# Altium footprint library acf_foot.PcbLib: 36 footprints (part 3 of 3)
Each footprint in its own frame and in the unit in brackets; x right, y up, seen from the top. Pads: shape width x height; smd on the part's side, far side on the other; paste and mask are expansions set on the pad; w line width, h text height; cw(c..) or ccw(c..) is an arc to the next point about the centre after c.
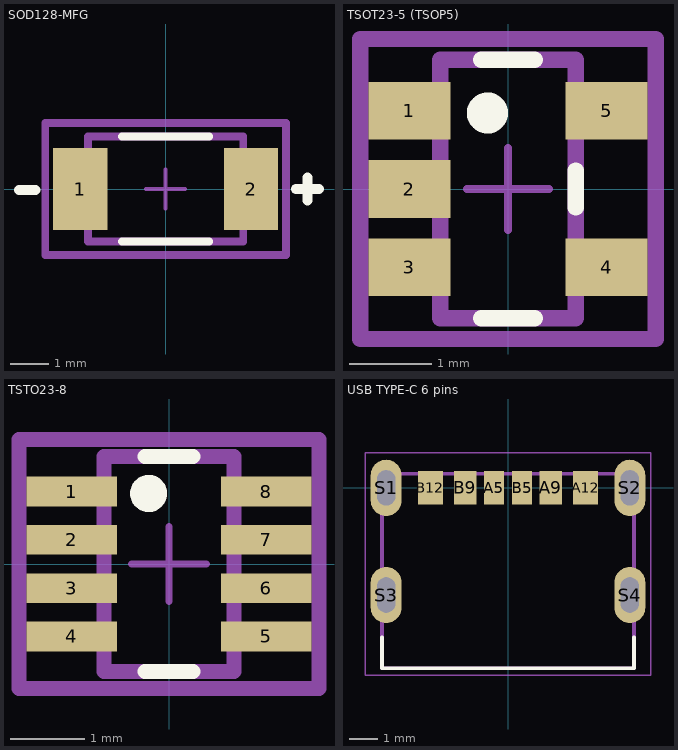
[diagram p2: the footprints below, top view; thin cyan lines are the x and y axes]

## SOD128-MFG [mm] "schottky diode"
pads (2):
  rect 1.4x2.1 smd paste-1000 mask+0: 1(-2.2,0) 2(2.2,0)
Top Overlay:
  lines w0.2: -1.125,-1.35 1.125,-1.35 ; -1.125,1.35 1.125,1.35
  lines w0.254: -3.775,-0.025 -3.35,-0.025 ; 3.35,0 3.95,0 ; 3.65,-0.3 3.65,0.3
Top Paste:
  rectangle: 1.6,-0.95 2.8,0.95
  rectangle: -2.8,-0.95 -1.6,0.95
Top Assembly:
  lines w0.2: -3.1,-1.7 -3.1,1.7 3.1,1.7 3.1,-1.7 -3.1,-1.7
Top 3D Body:
  lines w0.2: -2,-1.35 -2,1.35 2,1.35 2,-1.35 -2,-1.35
Top Courtyard:
  lines w0.2: -3.1,-1.7 -3.1,1.7 3.1,1.7 3.1,-1.7 -3.1,-1.7
Top Component Center:
  lines w0.1: -0.5,0 0.5,0 ; 0,-0.5 0,0.5
3D body "Diode_Nexperia_PMEG10020AELPX_eec.STEP": height 0.25, standoff 0, extent -3.1,-1.7 3.1,1.7

## TSOT23-5 (TSOP5) [mm]
pads (5):
  rect 1x0.7 smd paste+0 mask+0: 1(-1.2,0.95) 2(-1.2,0) 3(-1.2,-0.95) 4(1.2,-0.95) 5(1.2,0.95)
Top Overlay:
  circle w0.25: c-0.25,0.925 r0.125
  lines w0.2: -0.325,-1.575 0.325,-1.575 ; -0.325,1.575 0.325,1.575 ; 0.825,-0.225 0.825,0.225
Top Assembly:
  lines w0.2: -1.8,-1.825 -1.8,1.825 1.8,1.825 1.8,-1.825 -1.8,-1.825
Top 3D Body:
  lines w0.2: -0.825,-1.575 -0.825,1.575 0.825,1.575 0.825,-1.575 -0.825,-1.575
Top Courtyard:
  lines w0.2: -1.8,-1.825 -1.8,1.825 1.8,1.825 1.8,-1.825 -1.8,-1.825
Top Component Center:
  lines w0.1: -0.5,0 0.5,0 ; 0,-0.5 0,0.5
3D body "IC_ON_Semiconductor_NCP303LSN30T1G_eec.STEP": height 0.25, standoff 0, extent -1.8,-1.825 1.8,1.825

## TSTO23-8 [mm]
pads (8):
  rect 1.22x0.4 smd paste+0 mask+0: 1(-1.31,0.975) 2(-1.31,0.325) 3(-1.31,-0.325) 4(-1.31,-0.975) 5(1.31,-0.975) 6(1.31,-0.325) 7(1.31,0.325) 8(1.31,0.975)
Top Overlay:
  circle w0.25: c-0.275,0.95 r0.125
  lines w0.2: -0.325,-1.45 0.325,-1.45 ; -0.325,1.45 0.325,1.45
Top Assembly:
  lines w0.2: -2.02,-1.677 -2.02,1.677 2.02,1.677 2.02,-1.677 -2.02,-1.677
Top 3D Body:
  lines w0.2: -0.875,-1.45 -0.875,1.45 0.875,1.45 0.875,-1.45 -0.875,-1.45
Top Courtyard:
  lines w0.2: -2.02,-1.677 -2.02,1.677 2.02,1.677 2.02,-1.677 -2.02,-1.677
Top Component Center:
  lines w0.1: -0.5,0 0.5,0 ; 0,-0.5 0,0.5
3D body "IC_Analog_Devices_LTC2640ITS8-LZ12#TRMPBF_eec.STEP": height 0.25, standoff 0, extent -2.02,-1.677 2.02,1.677

## USB TYPE-C 6 pins [mm] "USB TYPE-C 6 pins"
pads (10):
  rect 0.7x1.2 smd: A5(-0.5,0.005) B5(0.5,0.005)
  rect 0.8x1.2 smd: A9(1.52,0.005) B9(-1.52,0.005)
  rect 0.9x1.2 smd: A12(2.75,0.005) B12(-2.75,0.005)
  oval 1.1x2 hole 0.65 slot 1.25 at 90 deg: S1(-4.32,0) S2(4.32,0) S3(-4.32,-3.8) S4(4.32,-3.8)
Top Overlay:
  lines w0.127: -4.47,-5.3 -4.47,-6.4 4.47,-6.4 4.47,-5.3
Top 3D Body:
  lines w0.127: -4.47,-6.4 4.47,-6.4 4.47,0.5 -4.47,0.5 -4.47,-6.4
Top Courtyard:
  lines w0.05: -5.07,-6.65 5.07,-6.65 5.07,1.25 -5.07,1.25 -5.07,-6.65
3D body "UJC-HP-3-SMT-TR--3DModel-STEP-56544.STEP": height 3.26, standoff -1, extent -4.47,-6.4 4.47,0.5